# Altium footprint library Pcb_pcm3168.PcbLib: 1 footprints
Each footprint in its own frame and in the unit in brackets; x right, y up, seen from the top. Pads: shape width x height; smd on the part's side, far side on the other; paste and mask are expansions set on the pad; w line width, h text height; cw(c..) or ccw(c..) is an arc to the next point about the centre after c.
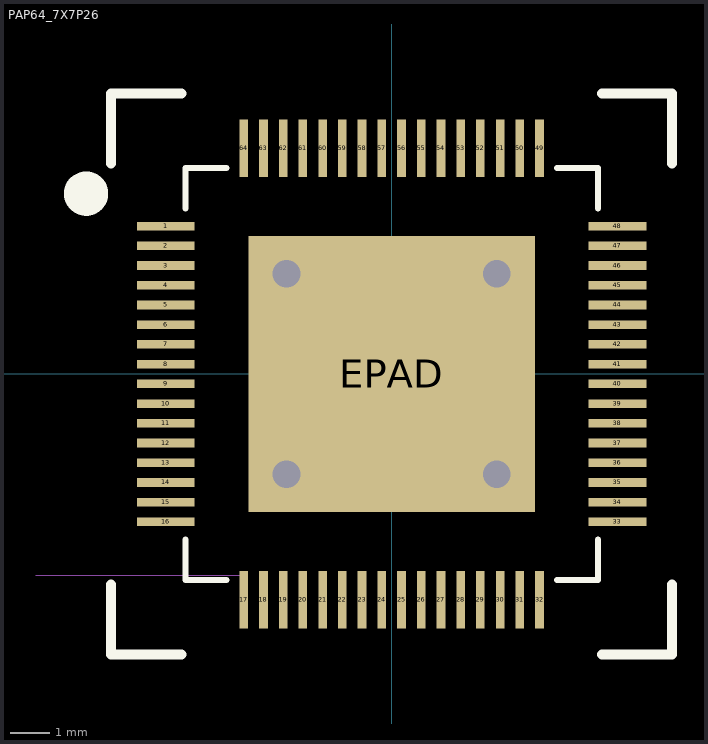
[diagram p0: the footprint, top view; thin cyan lines are the x and y axes]

## PAP64_7X7P26 [mm]
pads (65):
  rect 1.461x0.219 smd paste+0 mask+0: 1(-5.725,3.75) 2(-5.725,3.25) 3(-5.725,2.75) 4(-5.725,2.25) 5(-5.725,1.75) 6(-5.725,1.25) 7(-5.725,0.75) 8(-5.725,0.25) 9(-5.725,-0.25) 10(-5.725,-0.75) 11(-5.725,-1.25) 12(-5.725,-1.75) 13(-5.725,-2.25) 14(-5.725,-2.75) 15(-5.725,-3.25) 16(-5.725,-3.75) 33(5.725,-3.75) 34(5.725,-3.25) 35(5.725,-2.75) 36(5.725,-2.25) 37(5.725,-1.75) 38(5.725,-1.25) 39(5.725,-0.75) 40(5.725,-0.25) 41(5.725,0.25) 42(5.725,0.75) 43(5.725,1.25) 44(5.725,1.75) 45(5.725,2.25) 46(5.725,2.75) 47(5.725,3.25) 48(5.725,3.75)
  rect 0.219x1.461 smd paste+0 mask+0: 17(-3.75,-5.725) 18(-3.25,-5.725) 19(-2.75,-5.725) 20(-2.25,-5.725) 21(-1.75,-5.725) 22(-1.25,-5.725) 23(-0.75,-5.725) 24(-0.25,-5.725) 25(0.25,-5.725) 26(0.75,-5.725) 27(1.25,-5.725) 28(1.75,-5.725) 29(2.25,-5.725) 30(2.75,-5.725) 31(3.25,-5.725) 32(3.75,-5.725) 49(3.75,5.725) 50(3.25,5.725) 51(2.75,5.725) 52(2.25,5.725) 53(1.75,5.725) 54(1.25,5.725) 55(0.75,5.725) 56(0.25,5.725) 57(-0.25,5.725) 58(-0.75,5.725) 59(-1.25,5.725) 60(-1.75,5.725) 61(-2.25,5.725) 62(-2.75,5.725) 63(-3.25,5.725) 64(-3.75,5.725)
  rect 7.26x7 smd paste-3.617 mask-3.619: EPAD(0,0)
via -2.667,-2.54 diameter 1.4 hole 0.7
via 2.667,-2.54 diameter 1.4 hole 0.7
via 2.667,2.54 diameter 1.4 hole 0.7
via -2.667,2.54 diameter 1.4 hole 0.7
Top Overlay:
  circle w0.762: c-7.747,4.572 r0.18
  lines w0.152: -5.227,-4.192 -5.227,-5.227 -4.192,-5.227 ; -5.227,4.192 -5.227,5.227 -4.192,5.227 ; 4.192,-5.227 5.227,-5.227 5.227,-4.192 ; 4.192,5.227 5.227,5.227 5.227,4.192
  lines w0.254: -7.112,-5.334 -7.112,-7.112 -5.334,-7.112 ; -7.112,5.334 -7.112,7.112 -5.334,7.112 ; 5.334,-7.112 7.112,-7.112 7.112,-5.334 ; 5.334,7.112 7.112,7.112 7.112,5.334
Top Paste:
  drawing of 90 lines, arcs and shapes, not listed
Top Solder:
  region: -3.694,2.956 -3.694,3.564 3.694,3.564 3.694,2.956
  region: -3.694,2.168 -3.694,2.556 3.694,2.556 3.694,2.168
  region: -3.694,1.381 -3.694,1.769 3.694,1.769 3.694,1.381
  region: -3.694,0.594 -3.694,0.981 3.694,0.981 3.694,0.594
  region: -3.694,-0.194 -3.694,0.194 3.694,0.194 3.694,-0.194
  region: -3.694,-0.981 -3.694,-0.594 3.694,-0.594 3.694,-0.981
  region: -3.694,-1.769 -3.694,-1.381 3.694,-1.381 3.694,-1.769
  region: -3.694,-2.556 -3.694,-2.168 3.694,-2.168 3.694,-2.556
  region: -3.694,-3.564 -3.694,-2.956 3.694,-2.956 3.694,-3.564
  region: -3.694,-3.564 -3.694,3.564 -3.35,3.564 -3.35,-3.564
  region: -2.562,-3.564 -2.562,3.564 -2.95,3.564 -2.95,-3.564
  region: -1.775,-3.564 -1.775,3.564 -2.162,3.564 -2.162,-3.564
  region: -0.987,-3.564 -0.987,3.564 -1.375,3.564 -1.375,-3.564
  region: -0.2,-3.564 -0.2,3.564 -0.587,3.564 -0.587,-3.564
  region: 0.587,-3.564 0.587,3.564 0.2,3.564 0.2,-3.564
  region: 1.375,-3.564 1.375,3.564 0.987,3.564 0.987,-3.564
  region: 2.162,-3.564 2.162,3.564 1.775,3.564 1.775,-3.564
  region: 2.95,-3.564 2.95,3.564 2.562,3.564 2.562,-3.564
  region: 3.35,-3.564 3.35,3.564 3.694,3.564 3.694,-3.564
Mechanical 7:
  lines w0.025: -9.021,-5.1 -3.75,-5.1
Mechanical 16:
  circle w0.127: c-3.15,-2.756 r0.191
  circle w0.127: c-3.15,-1.968 r0.191
  circle w0.127: c-3.15,-1.181 r0.191
  circle w0.127: c-3.15,-0.394 r0.191
  circle w0.127: c-3.15,0.394 r0.191
  circle w0.127: c-3.15,1.181 r0.191
  circle w0.127: c-3.15,1.968 r0.191
  circle w0.127: c-3.15,2.756 r0.191
  circle w0.127: c-2.362,-2.756 r0.191
  circle w0.127: c-2.362,-1.968 r0.191
  circle w0.127: c-2.362,-1.181 r0.191
  circle w0.127: c-2.362,-0.394 r0.191
  circle w0.127: c-2.362,0.394 r0.191
  circle w0.127: c-2.362,1.181 r0.191
  circle w0.127: c-2.362,1.968 r0.191
  circle w0.127: c-2.362,2.756 r0.191
  circle w0.127: c-1.575,-2.756 r0.191
  circle w0.127: c-1.575,-1.968 r0.191
  circle w0.127: c-1.575,-1.181 r0.191
  circle w0.127: c-1.575,-0.394 r0.191
  circle w0.127: c-1.575,0.394 r0.191
  circle w0.127: c-1.575,1.181 r0.191
  circle w0.127: c-1.575,1.968 r0.191
  circle w0.127: c-1.575,2.756 r0.191
  circle w0.127: c-0.787,-2.756 r0.191
  circle w0.127: c-0.787,-1.968 r0.191
  circle w0.127: c-0.787,-1.181 r0.191
  circle w0.127: c-0.787,-0.394 r0.191
  circle w0.127: c-0.787,0.394 r0.191
  circle w0.127: c-0.787,1.181 r0.191
  circle w0.127: c-0.787,1.968 r0.191
  circle w0.127: c-0.787,2.756 r0.191
  circle w0.127: c0,-2.756 r0.191
  circle w0.127: c0,-1.968 r0.191
  circle w0.127: c0,-1.181 r0.191
  circle w0.127: c0,-0.394 r0.191
  circle w0.127: c0,0.394 r0.191
  circle w0.127: c0,1.181 r0.191
  circle w0.127: c0,1.968 r0.191
  circle w0.127: c0,2.756 r0.191
  circle w0.127: c0.787,-2.756 r0.191
  circle w0.127: c0.787,-1.968 r0.191
  circle w0.127: c0.787,-1.181 r0.191
  circle w0.127: c0.787,-0.394 r0.191
  circle w0.127: c0.787,0.394 r0.191
  circle w0.127: c0.787,1.181 r0.191
  circle w0.127: c0.787,1.968 r0.191
  circle w0.127: c0.787,2.756 r0.191
  circle w0.127: c1.575,-2.756 r0.191
  circle w0.127: c1.575,-1.968 r0.191
  circle w0.127: c1.575,-1.181 r0.191
  circle w0.127: c1.575,-0.394 r0.191
  circle w0.127: c1.575,0.394 r0.191
  circle w0.127: c1.575,1.181 r0.191
  circle w0.127: c1.575,1.968 r0.191
  circle w0.127: c1.575,2.756 r0.191
  circle w0.127: c2.362,-2.756 r0.191
  circle w0.127: c2.362,-1.968 r0.191
  circle w0.127: c2.362,-1.181 r0.191
  circle w0.127: c2.362,-0.394 r0.191
  circle w0.127: c2.362,0.394 r0.191
  circle w0.127: c2.362,1.181 r0.191
  circle w0.127: c2.362,1.968 r0.191
  circle w0.127: c2.362,2.756 r0.191
  circle w0.127: c3.15,-2.756 r0.191
  circle w0.127: c3.15,-1.968 r0.191
  circle w0.127: c3.15,-1.181 r0.191
  circle w0.127: c3.15,-0.394 r0.191
  circle w0.127: c3.15,0.394 r0.191
  circle w0.127: c3.15,1.181 r0.191
  circle w0.127: c3.15,1.968 r0.191
  circle w0.127: c3.15,2.756 r0.191
3D body: height 0.25, standoff 0, extent 0,0 0.254,0.254